# Altium integrated library Microchip Microcontroller 8-Bit PIC16 2.IntLib: 1656 symbols (part 33 of 56)
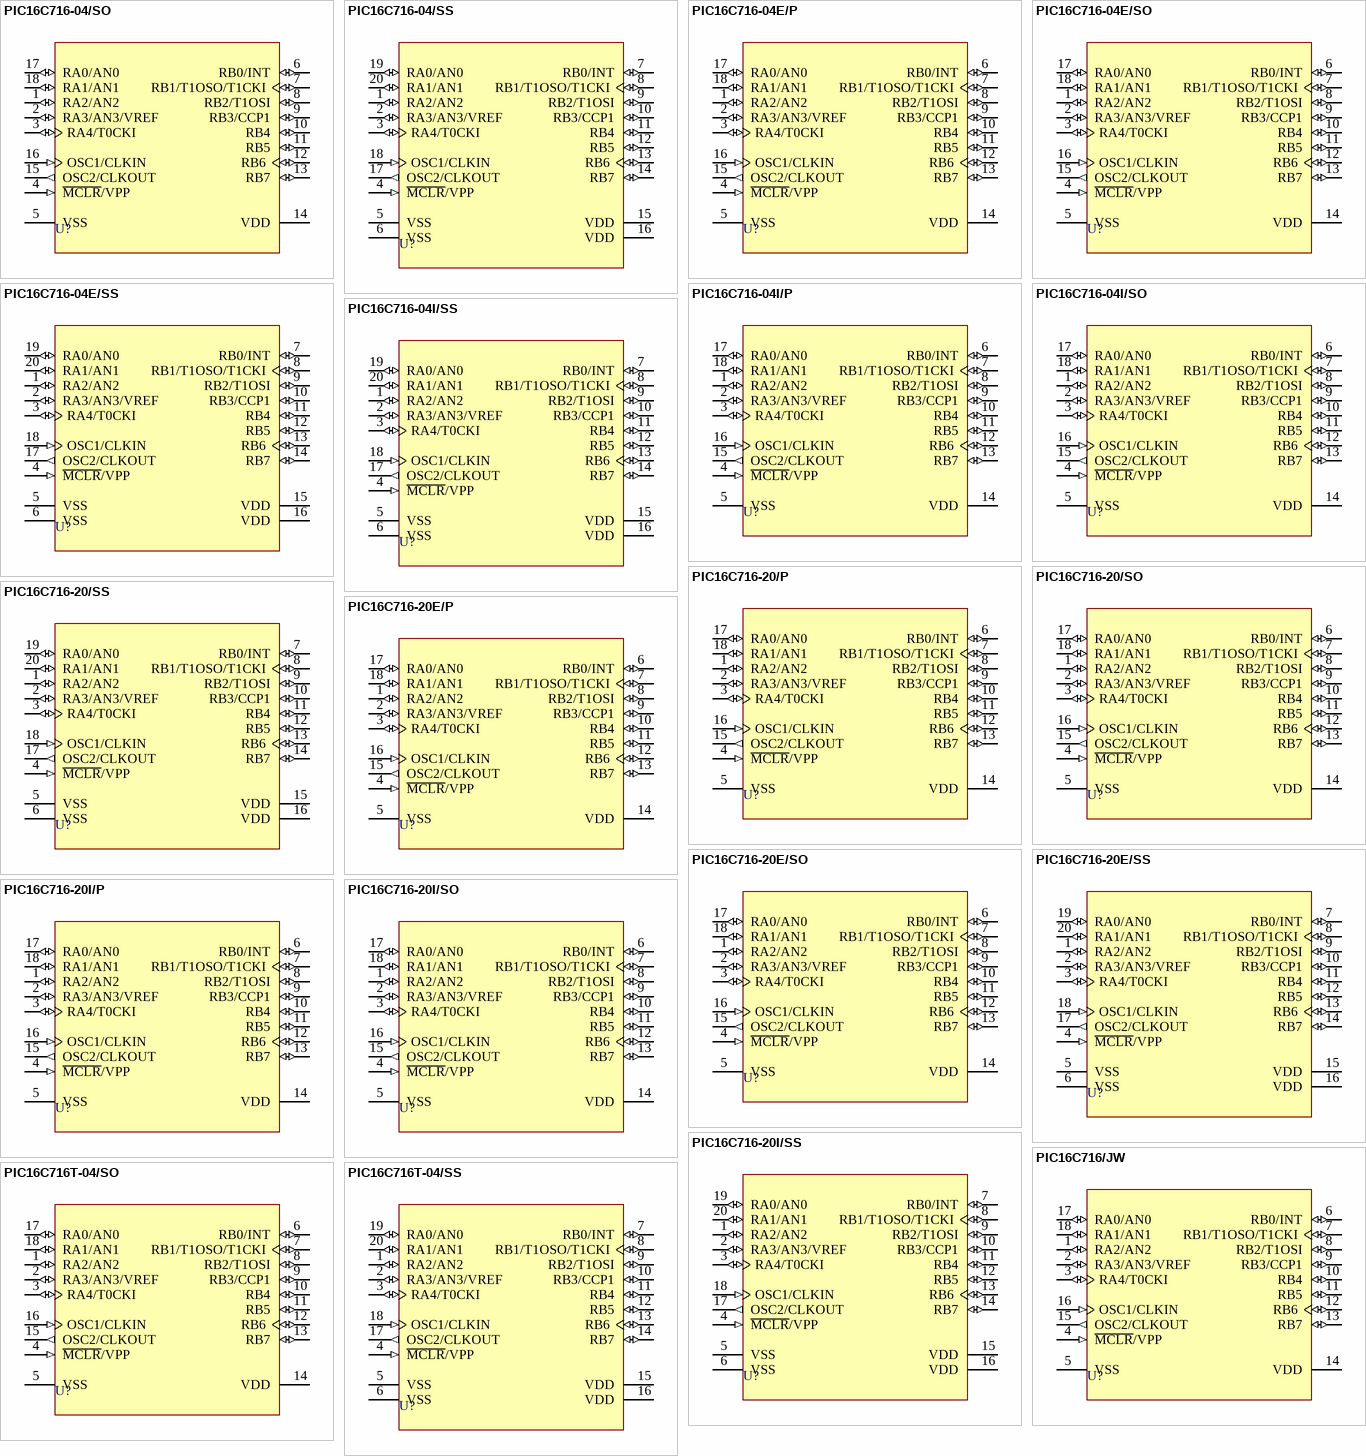
[diagram p140: symbols PIC16C716-04/SO to PIC16C716T-04/SS]

## PIC16C716-04I/P
designator U?
8-Bit CMOS Microcontroller with A/D Converter and Capture/Compare/PWM, 2K (x14-Bit words) EPROM, 128 Bytes RAM, 4 MHz, 18-Pin PDIP, 4.0 to 5.5V Supply Range, Industrial Temperature; Note: 25mA source/sink per I/O.; Published: 11-Oct-2004; LatestRevisionDate: 04-Mar-2005; LatestRevisionNote: Stylized 3D Model Added.; DatasheetVersion: DS41106A_1999; PackageVersion: 2003; PackageReference: PDIP300-18; Publisher: Altium Limited; PackageDescription: DIP, Plastic; 18 Leads; Row Spacing 7.62 mm; Pitch 2.54 mm; Code_JEDEC: MS-001; ComponentLink1Description: Manufacturer Link; ComponentLink1URL: http://www.microchip.com; ComponentLink2Description: Datasheet; ComponentLink2URL: http://ww1.microchip.com/downloads/en/DeviceDoc/41106a.pdf; ComponentLink3Description: Packaging Specification; ComponentLink3URL: http://ww1.microchip.com/downloads/en/PackagingSpec/00049AD.pdf
footprint PDIP300-18 (DIP, Plastic; 18 Leads; Row Spacing 7.62 mm; Pitch 2.54 mm)
3D model PDIP300-18 (DIP, Plastic; 18 Leads; Row Spacing 7.62 mm; Pitch 2.54 mm)
pins: 1 RA2/AN2 (io), 2 RA3/AN3/VREF (io), 3 RA4/T0CKI (io), 4 ~{MCLR}/VPP (in), 5 VSS (power), 6 RB0/INT (io), 7 RB1/T1OSO/T1CKI (io), 8 RB2/T1OSI (io), 9 RB3/CCP1 (io), 10 RB4 (io), 11 RB5 (io), 12 RB6 (io), 13 RB7 (io), 14 VDD (power), 15 OSC2/CLKOUT (out), 16 OSC1/CLKIN (in), 17 RA0/AN0 (io), 18 RA1/AN1 (io)

## PIC16C716-04I/SO
designator U?
8-Bit CMOS Microcontroller with A/D Converter and Capture/Compare/PWM, 2K (x14-Bit words) EPROM, 128 Bytes RAM, 4 MHz, 18-Pin SOIC, 4.0 to 5.5V Supply Range, Industrial Temperature; Note: 25mA source/sink per I/O.; Published: 11-Oct-2004; LatestRevisionDate: 13-Apr-2006; LatestRevisionNote: IPC-7351 Footprint Added.; DatasheetVersion: DS41106A_1999; PackageVersion: 2003; PackageReference: SOIC300-18; Publisher: Altium Limited; PackageDescription: 18-Pin Small Outline Integrated Circuit 1.27 mm Pitch; Code_JEDEC: MS-013; ComponentLink1Description: Manufacturer Link; ComponentLink1URL: http://www.microchip.com; ComponentLink2Description: Datasheet; ComponentLink2URL: http://ww1.microchip.com/downloads/en/DeviceDoc/41106a.pdf; ComponentLink3Description: Packaging Specification; ComponentLink3URL: http://ww1.microchip.com/downloads/en/PackagingSpec/00049AD.pdf
footprint SOIC300-18_N (SOIC, 18-Leads, Body 11.5x7.5mm, Pitch 1.27mm, IPC Medium Density)
footprint SOIC300-18_L (SOIC, 18-Leads, Body 11.5x7.5mm, Pitch 1.27mm, IPC High Density)
footprint SOIC300-18_M (SOIC, 18-Leads, Body 11.5x7.5mm, Pitch 1.27mm, IPC Low Density)
3D model SOIC300-18 (18-Pin Small Outline Integrated Circuit 1.27 mm Pitch)
pins: 1 RA2/AN2 (io), 2 RA3/AN3/VREF (io), 3 RA4/T0CKI (io), 4 ~{MCLR}/VPP (in), 5 VSS (power), 6 RB0/INT (io), 7 RB1/T1OSO/T1CKI (io), 8 RB2/T1OSI (io), 9 RB3/CCP1 (io), 10 RB4 (io), 11 RB5 (io), 12 RB6 (io), 13 RB7 (io), 14 VDD (power), 15 OSC2/CLKOUT (out), 16 OSC1/CLKIN (in), 17 RA0/AN0 (io), 18 RA1/AN1 (io)

## PIC16C716-04I/SS
designator U?
8-Bit CMOS Microcontroller with A/D Converter and Capture/Compare/PWM, 2K (x14-Bit words) EPROM, 128 Bytes RAM, 4 MHz, 20-Pin SSOP, 4.0 to 5.5V Supply Range, Industrial Temperature; Note: 25mA source/sink per I/O.; Published: 11-Oct-2004; LatestRevisionDate: 04-Mar-2005; LatestRevisionNote: Stylized 3D Model Added.; DatasheetVersion: DS41106A_1999; PackageVersion: 2003; PackageReference: SSOP-20; Publisher: Altium Limited; PackageDescription: SSOP, Plastic; 20 Leads; Body Width 5.3 mm; Pitch 0.65 mm; Code_JEDEC: MO-150; ComponentLink1Description: Manufacturer Link; ComponentLink1URL: http://www.microchip.com; ComponentLink2Description: Datasheet; ComponentLink2URL: http://ww1.microchip.com/downloads/en/DeviceDoc/41106a.pdf; ComponentLink3Description: Packaging Specification; ComponentLink3URL: http://ww1.microchip.com/downloads/en/PackagingSpec/00049AD.pdf
footprint SSOP-20 (SSOP, Plastic; 20 Leads; Body Width 5.3 mm; Pitch 0.65 mm)
3D model SSOP-20 (SSOP, Plastic; 20 Leads; Body Width 5.3 mm; Pitch 0.65 mm)
pins: 1 RA2/AN2 (io), 2 RA3/AN3/VREF (io), 3 RA4/T0CKI (io), 4 ~{MCLR}/VPP (in), 5 VSS (power), 6 VSS (power), 7 RB0/INT (io), 8 RB1/T1OSO/T1CKI (io), 9 RB2/T1OSI (io), 10 RB3/CCP1 (io), 11 RB4 (io), 12 RB5 (io), 13 RB6 (io), 14 RB7 (io), 15 VDD (power), 16 VDD (power), 17 OSC2/CLKOUT (out), 18 OSC1/CLKIN (in), 19 RA0/AN0 (io), 20 RA1/AN1 (io)

## PIC16C716-20/P
designator U?
8-Bit CMOS Microcontroller with A/D Converter and Capture/Compare/PWM, 2K (x14-Bit words) EPROM, 128 Bytes RAM, 20 MHz, 18-Pin PDIP, 4.0 to 5.5V Supply Range, Commercial Temperature; Note: 25mA source/sink per I/O.; Published: 11-Oct-2004; LatestRevisionDate: 04-Mar-2005; LatestRevisionNote: Stylized 3D Model Added.; DatasheetVersion: DS41106A_1999; PackageVersion: 2003; PackageReference: PDIP300-18; Publisher: Altium Limited; PackageDescription: DIP, Plastic; 18 Leads; Row Spacing 7.62 mm; Pitch 2.54 mm; Code_JEDEC: MS-001; ComponentLink1Description: Manufacturer Link; ComponentLink1URL: http://www.microchip.com; ComponentLink2Description: Datasheet; ComponentLink2URL: http://ww1.microchip.com/downloads/en/DeviceDoc/41106a.pdf; ComponentLink3Description: Packaging Specification; ComponentLink3URL: http://ww1.microchip.com/downloads/en/PackagingSpec/00049AD.pdf
footprint PDIP300-18 (DIP, Plastic; 18 Leads; Row Spacing 7.62 mm; Pitch 2.54 mm)
3D model PDIP300-18 (DIP, Plastic; 18 Leads; Row Spacing 7.62 mm; Pitch 2.54 mm)
pins: 1 RA2/AN2 (io), 2 RA3/AN3/VREF (io), 3 RA4/T0CKI (io), 4 ~{MCLR}/VPP (in), 5 VSS (power), 6 RB0/INT (io), 7 RB1/T1OSO/T1CKI (io), 8 RB2/T1OSI (io), 9 RB3/CCP1 (io), 10 RB4 (io), 11 RB5 (io), 12 RB6 (io), 13 RB7 (io), 14 VDD (power), 15 OSC2/CLKOUT (out), 16 OSC1/CLKIN (in), 17 RA0/AN0 (io), 18 RA1/AN1 (io)

## PIC16C716-20/SO
designator U?
8-Bit CMOS Microcontroller with A/D Converter and Capture/Compare/PWM, 2K (x14-Bit words) EPROM, 128 Bytes RAM, 20 MHz, 18-Pin SOIC, 4.0 to 5.5V Supply Range, Commercial Temperature; Note: 25mA source/sink per I/O.; Published: 11-Oct-2004; LatestRevisionDate: 13-Apr-2006; LatestRevisionNote: IPC-7351 Footprint Added.; DatasheetVersion: DS41106A_1999; PackageVersion: 2003; PackageReference: SOIC300-18; Publisher: Altium Limited; PackageDescription: 18-Pin Small Outline Integrated Circuit 1.27 mm Pitch; Code_JEDEC: MS-013; ComponentLink1Description: Manufacturer Link; ComponentLink1URL: http://www.microchip.com; ComponentLink2Description: Datasheet; ComponentLink2URL: http://ww1.microchip.com/downloads/en/DeviceDoc/41106a.pdf; ComponentLink3Description: Packaging Specification; ComponentLink3URL: http://ww1.microchip.com/downloads/en/PackagingSpec/00049AD.pdf
footprint SOIC300-18_N (SOIC, 18-Leads, Body 11.5x7.5mm, Pitch 1.27mm, IPC Medium Density)
footprint SOIC300-18_L (SOIC, 18-Leads, Body 11.5x7.5mm, Pitch 1.27mm, IPC High Density)
footprint SOIC300-18_M (SOIC, 18-Leads, Body 11.5x7.5mm, Pitch 1.27mm, IPC Low Density)
3D model SOIC300-18 (18-Pin Small Outline Integrated Circuit 1.27 mm Pitch)
pins: 1 RA2/AN2 (io), 2 RA3/AN3/VREF (io), 3 RA4/T0CKI (io), 4 ~{MCLR}/VPP (in), 5 VSS (power), 6 RB0/INT (io), 7 RB1/T1OSO/T1CKI (io), 8 RB2/T1OSI (io), 9 RB3/CCP1 (io), 10 RB4 (io), 11 RB5 (io), 12 RB6 (io), 13 RB7 (io), 14 VDD (power), 15 OSC2/CLKOUT (out), 16 OSC1/CLKIN (in), 17 RA0/AN0 (io), 18 RA1/AN1 (io)

## PIC16C716-20/SS
designator U?
8-Bit CMOS Microcontroller with A/D Converter and Capture/Compare/PWM, 2K (x14-Bit words) EPROM, 128 Bytes RAM, 20 MHz, 20-Pin SSOP, 4.0 to 5.5V Supply Range, Commercial Temperature; Note: 25mA source/sink per I/O.; Published: 11-Oct-2004; LatestRevisionDate: 04-Mar-2005; LatestRevisionNote: Stylized 3D Model Added.; DatasheetVersion: DS41106A_1999; PackageVersion: 2003; PackageReference: SSOP-20; Publisher: Altium Limited; PackageDescription: SSOP, Plastic; 20 Leads; Body Width 5.3 mm; Pitch 0.65 mm; Code_JEDEC: MO-150; ComponentLink1Description: Manufacturer Link; ComponentLink1URL: http://www.microchip.com; ComponentLink2Description: Datasheet; ComponentLink2URL: http://ww1.microchip.com/downloads/en/DeviceDoc/41106a.pdf; ComponentLink3Description: Packaging Specification; ComponentLink3URL: http://ww1.microchip.com/downloads/en/PackagingSpec/00049AD.pdf
footprint SSOP-20 (SSOP, Plastic; 20 Leads; Body Width 5.3 mm; Pitch 0.65 mm)
3D model SSOP-20 (SSOP, Plastic; 20 Leads; Body Width 5.3 mm; Pitch 0.65 mm)
pins: 1 RA2/AN2 (io), 2 RA3/AN3/VREF (io), 3 RA4/T0CKI (io), 4 ~{MCLR}/VPP (in), 5 VSS (power), 6 VSS (power), 7 RB0/INT (io), 8 RB1/T1OSO/T1CKI (io), 9 RB2/T1OSI (io), 10 RB3/CCP1 (io), 11 RB4 (io), 12 RB5 (io), 13 RB6 (io), 14 RB7 (io), 15 VDD (power), 16 VDD (power), 17 OSC2/CLKOUT (out), 18 OSC1/CLKIN (in), 19 RA0/AN0 (io), 20 RA1/AN1 (io)

## PIC16C716-20E/P
designator U?
8-Bit CMOS Microcontroller with A/D Converter and Capture/Compare/PWM, 2K (x14-Bit words) EPROM, 128 Bytes RAM, 20 MHz, 18-Pin PDIP, 4.0 to 5.5V Supply Range, Extended Temperature; Note: 25mA source/sink per I/O.; Published: 11-Oct-2004; LatestRevisionDate: 04-Mar-2005; LatestRevisionNote: Stylized 3D Model Added.; DatasheetVersion: DS41106A_1999; PackageVersion: 2003; PackageReference: PDIP300-18; Publisher: Altium Limited; PackageDescription: DIP, Plastic; 18 Leads; Row Spacing 7.62 mm; Pitch 2.54 mm; Code_JEDEC: MS-001; ComponentLink1Description: Manufacturer Link; ComponentLink1URL: http://www.microchip.com; ComponentLink2Description: Datasheet; ComponentLink2URL: http://ww1.microchip.com/downloads/en/DeviceDoc/41106a.pdf; ComponentLink3Description: Packaging Specification; ComponentLink3URL: http://ww1.microchip.com/downloads/en/PackagingSpec/00049AD.pdf
footprint PDIP300-18 (DIP, Plastic; 18 Leads; Row Spacing 7.62 mm; Pitch 2.54 mm)
3D model PDIP300-18 (DIP, Plastic; 18 Leads; Row Spacing 7.62 mm; Pitch 2.54 mm)
pins: 1 RA2/AN2 (io), 2 RA3/AN3/VREF (io), 3 RA4/T0CKI (io), 4 ~{MCLR}/VPP (in), 5 VSS (power), 6 RB0/INT (io), 7 RB1/T1OSO/T1CKI (io), 8 RB2/T1OSI (io), 9 RB3/CCP1 (io), 10 RB4 (io), 11 RB5 (io), 12 RB6 (io), 13 RB7 (io), 14 VDD (power), 15 OSC2/CLKOUT (out), 16 OSC1/CLKIN (in), 17 RA0/AN0 (io), 18 RA1/AN1 (io)

## PIC16C716-20E/SO
designator U?
8-Bit CMOS Microcontroller with A/D Converter and Capture/Compare/PWM, 2K (x14-Bit words) EPROM, 128 Bytes RAM, 20 MHz, 18-Pin SOIC, 4.0 to 5.5V Supply Range, Extended Temperature; Note: 25mA source/sink per I/O.; Published: 11-Oct-2004; LatestRevisionDate: 13-Apr-2006; LatestRevisionNote: IPC-7351 Footprint Added.; DatasheetVersion: DS41106A_1999; PackageVersion: 2003; PackageReference: SOIC300-18; Publisher: Altium Limited; PackageDescription: 18-Pin Small Outline Integrated Circuit 1.27 mm Pitch; Code_JEDEC: MS-013; ComponentLink1Description: Manufacturer Link; ComponentLink1URL: http://www.microchip.com; ComponentLink2Description: Datasheet; ComponentLink2URL: http://ww1.microchip.com/downloads/en/DeviceDoc/41106a.pdf; ComponentLink3Description: Packaging Specification; ComponentLink3URL: http://ww1.microchip.com/downloads/en/PackagingSpec/00049AD.pdf
footprint SOIC300-18_N (SOIC, 18-Leads, Body 11.5x7.5mm, Pitch 1.27mm, IPC Medium Density)
footprint SOIC300-18_L (SOIC, 18-Leads, Body 11.5x7.5mm, Pitch 1.27mm, IPC High Density)
footprint SOIC300-18_M (SOIC, 18-Leads, Body 11.5x7.5mm, Pitch 1.27mm, IPC Low Density)
3D model SOIC300-18 (18-Pin Small Outline Integrated Circuit 1.27 mm Pitch)
pins: 1 RA2/AN2 (io), 2 RA3/AN3/VREF (io), 3 RA4/T0CKI (io), 4 ~{MCLR}/VPP (in), 5 VSS (power), 6 RB0/INT (io), 7 RB1/T1OSO/T1CKI (io), 8 RB2/T1OSI (io), 9 RB3/CCP1 (io), 10 RB4 (io), 11 RB5 (io), 12 RB6 (io), 13 RB7 (io), 14 VDD (power), 15 OSC2/CLKOUT (out), 16 OSC1/CLKIN (in), 17 RA0/AN0 (io), 18 RA1/AN1 (io)

## PIC16C716-20E/SS
designator U?
8-Bit CMOS Microcontroller with A/D Converter and Capture/Compare/PWM, 2K (x14-Bit words) EPROM, 128 Bytes RAM, 20 MHz, 20-Pin SSOP, 4.0 to 5.5V Supply Range, Extended Temperature; Note: 25mA source/sink per I/O.; Published: 11-Oct-2004; LatestRevisionDate: 04-Mar-2005; LatestRevisionNote: Stylized 3D Model Added.; DatasheetVersion: DS41106A_1999; PackageVersion: 2003; PackageReference: SSOP-20; Publisher: Altium Limited; PackageDescription: SSOP, Plastic; 20 Leads; Body Width 5.3 mm; Pitch 0.65 mm; Code_JEDEC: MO-150; ComponentLink1Description: Manufacturer Link; ComponentLink1URL: http://www.microchip.com; ComponentLink2Description: Datasheet; ComponentLink2URL: http://ww1.microchip.com/downloads/en/DeviceDoc/41106a.pdf; ComponentLink3Description: Packaging Specification; ComponentLink3URL: http://ww1.microchip.com/downloads/en/PackagingSpec/00049AD.pdf
footprint SSOP-20 (SSOP, Plastic; 20 Leads; Body Width 5.3 mm; Pitch 0.65 mm)
3D model SSOP-20 (SSOP, Plastic; 20 Leads; Body Width 5.3 mm; Pitch 0.65 mm)
pins: 1 RA2/AN2 (io), 2 RA3/AN3/VREF (io), 3 RA4/T0CKI (io), 4 ~{MCLR}/VPP (in), 5 VSS (power), 6 VSS (power), 7 RB0/INT (io), 8 RB1/T1OSO/T1CKI (io), 9 RB2/T1OSI (io), 10 RB3/CCP1 (io), 11 RB4 (io), 12 RB5 (io), 13 RB6 (io), 14 RB7 (io), 15 VDD (power), 16 VDD (power), 17 OSC2/CLKOUT (out), 18 OSC1/CLKIN (in), 19 RA0/AN0 (io), 20 RA1/AN1 (io)

## PIC16C716-20I/P
designator U?
8-Bit CMOS Microcontroller with A/D Converter and Capture/Compare/PWM, 2K (x14-Bit words) EPROM, 128 Bytes RAM, 20 MHz, 18-Pin PDIP, 4.0 to 5.5V Supply Range, Industrial Temperature; Note: 25mA source/sink per I/O.; Published: 11-Oct-2004; LatestRevisionDate: 04-Mar-2005; LatestRevisionNote: Stylized 3D Model Added.; DatasheetVersion: DS41106A_1999; PackageVersion: 2003; PackageReference: PDIP300-18; Publisher: Altium Limited; PackageDescription: DIP, Plastic; 18 Leads; Row Spacing 7.62 mm; Pitch 2.54 mm; Code_JEDEC: MS-001; ComponentLink1Description: Manufacturer Link; ComponentLink1URL: http://www.microchip.com; ComponentLink2Description: Datasheet; ComponentLink2URL: http://ww1.microchip.com/downloads/en/DeviceDoc/41106a.pdf; ComponentLink3Description: Packaging Specification; ComponentLink3URL: http://ww1.microchip.com/downloads/en/PackagingSpec/00049AD.pdf
footprint PDIP300-18 (DIP, Plastic; 18 Leads; Row Spacing 7.62 mm; Pitch 2.54 mm)
3D model PDIP300-18 (DIP, Plastic; 18 Leads; Row Spacing 7.62 mm; Pitch 2.54 mm)
pins: 1 RA2/AN2 (io), 2 RA3/AN3/VREF (io), 3 RA4/T0CKI (io), 4 ~{MCLR}/VPP (in), 5 VSS (power), 6 RB0/INT (io), 7 RB1/T1OSO/T1CKI (io), 8 RB2/T1OSI (io), 9 RB3/CCP1 (io), 10 RB4 (io), 11 RB5 (io), 12 RB6 (io), 13 RB7 (io), 14 VDD (power), 15 OSC2/CLKOUT (out), 16 OSC1/CLKIN (in), 17 RA0/AN0 (io), 18 RA1/AN1 (io)

## PIC16C716-20I/SO
designator U?
8-Bit CMOS Microcontroller with A/D Converter and Capture/Compare/PWM, 2K (x14-Bit words) EPROM, 128 Bytes RAM, 20 MHz, 18-Pin SOIC, 4.0 to 5.5V Supply Range, Industrial Temperature; Note: 25mA source/sink per I/O.; Published: 11-Oct-2004; LatestRevisionDate: 13-Apr-2006; LatestRevisionNote: IPC-7351 Footprint Added.; DatasheetVersion: DS41106A_1999; PackageVersion: 2003; PackageReference: SOIC300-18; Publisher: Altium Limited; PackageDescription: 18-Pin Small Outline Integrated Circuit 1.27 mm Pitch; Code_JEDEC: MS-013; ComponentLink1Description: Manufacturer Link; ComponentLink1URL: http://www.microchip.com; ComponentLink2Description: Datasheet; ComponentLink2URL: http://ww1.microchip.com/downloads/en/DeviceDoc/41106a.pdf; ComponentLink3Description: Packaging Specification; ComponentLink3URL: http://ww1.microchip.com/downloads/en/PackagingSpec/00049AD.pdf
footprint SOIC300-18_N (SOIC, 18-Leads, Body 11.5x7.5mm, Pitch 1.27mm, IPC Medium Density)
footprint SOIC300-18_L (SOIC, 18-Leads, Body 11.5x7.5mm, Pitch 1.27mm, IPC High Density)
footprint SOIC300-18_M (SOIC, 18-Leads, Body 11.5x7.5mm, Pitch 1.27mm, IPC Low Density)
3D model SOIC300-18 (18-Pin Small Outline Integrated Circuit 1.27 mm Pitch)
pins: 1 RA2/AN2 (io), 2 RA3/AN3/VREF (io), 3 RA4/T0CKI (io), 4 ~{MCLR}/VPP (in), 5 VSS (power), 6 RB0/INT (io), 7 RB1/T1OSO/T1CKI (io), 8 RB2/T1OSI (io), 9 RB3/CCP1 (io), 10 RB4 (io), 11 RB5 (io), 12 RB6 (io), 13 RB7 (io), 14 VDD (power), 15 OSC2/CLKOUT (out), 16 OSC1/CLKIN (in), 17 RA0/AN0 (io), 18 RA1/AN1 (io)

## PIC16C716-20I/SS
designator U?
8-Bit CMOS Microcontroller with A/D Converter and Capture/Compare/PWM, 2K (x14-Bit words) EPROM, 128 Bytes RAM, 20 MHz, 20-Pin SSOP, 4.0 to 5.5V Supply Range, Industrial Temperature; Note: 25mA source/sink per I/O.; Published: 11-Oct-2004; LatestRevisionDate: 04-Mar-2005; LatestRevisionNote: Stylized 3D Model Added.; DatasheetVersion: DS41106A_1999; PackageVersion: 2003; PackageReference: SSOP-20; Publisher: Altium Limited; PackageDescription: SSOP, Plastic; 20 Leads; Body Width 5.3 mm; Pitch 0.65 mm; Code_JEDEC: MO-150; ComponentLink1Description: Manufacturer Link; ComponentLink1URL: http://www.microchip.com; ComponentLink2Description: Datasheet; ComponentLink2URL: http://ww1.microchip.com/downloads/en/DeviceDoc/41106a.pdf; ComponentLink3Description: Packaging Specification; ComponentLink3URL: http://ww1.microchip.com/downloads/en/PackagingSpec/00049AD.pdf
footprint SSOP-20 (SSOP, Plastic; 20 Leads; Body Width 5.3 mm; Pitch 0.65 mm)
3D model SSOP-20 (SSOP, Plastic; 20 Leads; Body Width 5.3 mm; Pitch 0.65 mm)
pins: 1 RA2/AN2 (io), 2 RA3/AN3/VREF (io), 3 RA4/T0CKI (io), 4 ~{MCLR}/VPP (in), 5 VSS (power), 6 VSS (power), 7 RB0/INT (io), 8 RB1/T1OSO/T1CKI (io), 9 RB2/T1OSI (io), 10 RB3/CCP1 (io), 11 RB4 (io), 12 RB5 (io), 13 RB6 (io), 14 RB7 (io), 15 VDD (power), 16 VDD (power), 17 OSC2/CLKOUT (out), 18 OSC1/CLKIN (in), 19 RA0/AN0 (io), 20 RA1/AN1 (io)

## PIC16C716/JW
designator U?
8-Bit CMOS Microcontroller with A/D Converter and Capture/Compare/PWM, 2K (x14-Bit words) EPROM, 128 Bytes RAM, 18-Pin CERDIP, UV Erasable, Standard VDD Range, Commercial Temperature; Note: JW Devices can be programmed to any device configuration.; Note: JW Devices meet the electrical requirement of each oscillator type (including LC devices).; Note: 25mA source/sink per I/O.; Published: 11-Oct-2004; LatestRevisionDate: 04-Mar-2005; LatestRevisionNote: Stylized 3D Model Added.; DatasheetVersion: DS41106A_1999; PackageVersion: 2003; PackageReference: CERDIP300W-18; Publisher: Altium Limited; PackageDescription: CerDIP, Window; 18 Leads; Row Spacing 7.62 mm; Pitch 2.54 mm; Code_JEDEC: MO-036; ComponentLink1Description: Manufacturer Link; ComponentLink1URL: http://www.microchip.com; ComponentLink2Description: Datasheet; ComponentLink2URL: http://ww1.microchip.com/downloads/en/DeviceDoc/41106a.pdf; ComponentLink3Description: Packaging Specification; ComponentLink3URL: http://ww1.microchip.com/downloads/en/PackagingSpec/00049AD.pdf
footprint CERDIP300W-18 (CerDIP, Window; 18 Leads; Row Spacing 7.62 mm; Pitch 2.54 mm)
3D model CERDIP300W-18 (CerDIP, Window; 18 Leads; Row Spacing 7.62 mm; Pitch 2.54 mm)
pins: 1 RA2/AN2 (io), 2 RA3/AN3/VREF (io), 3 RA4/T0CKI (io), 4 ~{MCLR}/VPP (in), 5 VSS (power), 6 RB0/INT (io), 7 RB1/T1OSO/T1CKI (io), 8 RB2/T1OSI (io), 9 RB3/CCP1 (io), 10 RB4 (io), 11 RB5 (io), 12 RB6 (io), 13 RB7 (io), 14 VDD (power), 15 OSC2/CLKOUT (out), 16 OSC1/CLKIN (in), 17 RA0/AN0 (io), 18 RA1/AN1 (io)

## PIC16C716T-04/SO
designator U?
8-Bit CMOS Microcontroller with A/D Converter and Capture/Compare/PWM, 2K (x14-Bit words) EPROM, 128 Bytes RAM, 4 MHz, 18-Pin SOIC, 4.0 to 5.5V Supply Range, Commercial Temperature, Tape and Reel; Note: 25mA source/sink per I/O.; Published: 11-Oct-2004; LatestRevisionDate: 13-Apr-2006; LatestRevisionNote: IPC-7351 Footprint Added.; DatasheetVersion: DS41106A_1999; PackageVersion: 2003; PackageReference: SOIC300-18; Publisher: Altium Limited; PackageDescription: 18-Pin Small Outline Integrated Circuit 1.27 mm Pitch; Code_JEDEC: MS-013; ComponentLink1Description: Manufacturer Link; ComponentLink1URL: http://www.microchip.com; ComponentLink2Description: Datasheet; ComponentLink2URL: http://ww1.microchip.com/downloads/en/DeviceDoc/41106a.pdf; ComponentLink3Description: Packaging Specification; ComponentLink3URL: http://ww1.microchip.com/downloads/en/PackagingSpec/00049AD.pdf
footprint SOIC300-18_N (SOIC, 18-Leads, Body 11.5x7.5mm, Pitch 1.27mm, IPC Medium Density)
footprint SOIC300-18_L (SOIC, 18-Leads, Body 11.5x7.5mm, Pitch 1.27mm, IPC High Density)
footprint SOIC300-18_M (SOIC, 18-Leads, Body 11.5x7.5mm, Pitch 1.27mm, IPC Low Density)
3D model SOIC300-18 (18-Pin Small Outline Integrated Circuit 1.27 mm Pitch)
pins: 1 RA2/AN2 (io), 2 RA3/AN3/VREF (io), 3 RA4/T0CKI (io), 4 ~{MCLR}/VPP (in), 5 VSS (power), 6 RB0/INT (io), 7 RB1/T1OSO/T1CKI (io), 8 RB2/T1OSI (io), 9 RB3/CCP1 (io), 10 RB4 (io), 11 RB5 (io), 12 RB6 (io), 13 RB7 (io), 14 VDD (power), 15 OSC2/CLKOUT (out), 16 OSC1/CLKIN (in), 17 RA0/AN0 (io), 18 RA1/AN1 (io)

## PIC16C716T-04/SS
designator U?
8-Bit CMOS Microcontroller with A/D Converter and Capture/Compare/PWM, 2K (x14-Bit words) EPROM, 128 Bytes RAM, 4 MHz, 20-Pin SSOP, 4.0 to 5.5V Supply Range, Commercial Temperature, Tape and Reel; Note: 25mA source/sink per I/O.; Published: 11-Oct-2004; LatestRevisionDate: 04-Mar-2005; LatestRevisionNote: Stylized 3D Model Added.; DatasheetVersion: DS41106A_1999; PackageVersion: 2003; PackageReference: SSOP-20; Publisher: Altium Limited; PackageDescription: SSOP, Plastic; 20 Leads; Body Width 5.3 mm; Pitch 0.65 mm; Code_JEDEC: MO-150; ComponentLink1Description: Manufacturer Link; ComponentLink1URL: http://www.microchip.com; ComponentLink2Description: Datasheet; ComponentLink2URL: http://ww1.microchip.com/downloads/en/DeviceDoc/41106a.pdf; ComponentLink3Description: Packaging Specification; ComponentLink3URL: http://ww1.microchip.com/downloads/en/PackagingSpec/00049AD.pdf
footprint SSOP-20 (SSOP, Plastic; 20 Leads; Body Width 5.3 mm; Pitch 0.65 mm)
3D model SSOP-20 (SSOP, Plastic; 20 Leads; Body Width 5.3 mm; Pitch 0.65 mm)
pins: 1 RA2/AN2 (io), 2 RA3/AN3/VREF (io), 3 RA4/T0CKI (io), 4 ~{MCLR}/VPP (in), 5 VSS (power), 6 VSS (power), 7 RB0/INT (io), 8 RB1/T1OSO/T1CKI (io), 9 RB2/T1OSI (io), 10 RB3/CCP1 (io), 11 RB4 (io), 12 RB5 (io), 13 RB6 (io), 14 RB7 (io), 15 VDD (power), 16 VDD (power), 17 OSC2/CLKOUT (out), 18 OSC1/CLKIN (in), 19 RA0/AN0 (io), 20 RA1/AN1 (io)

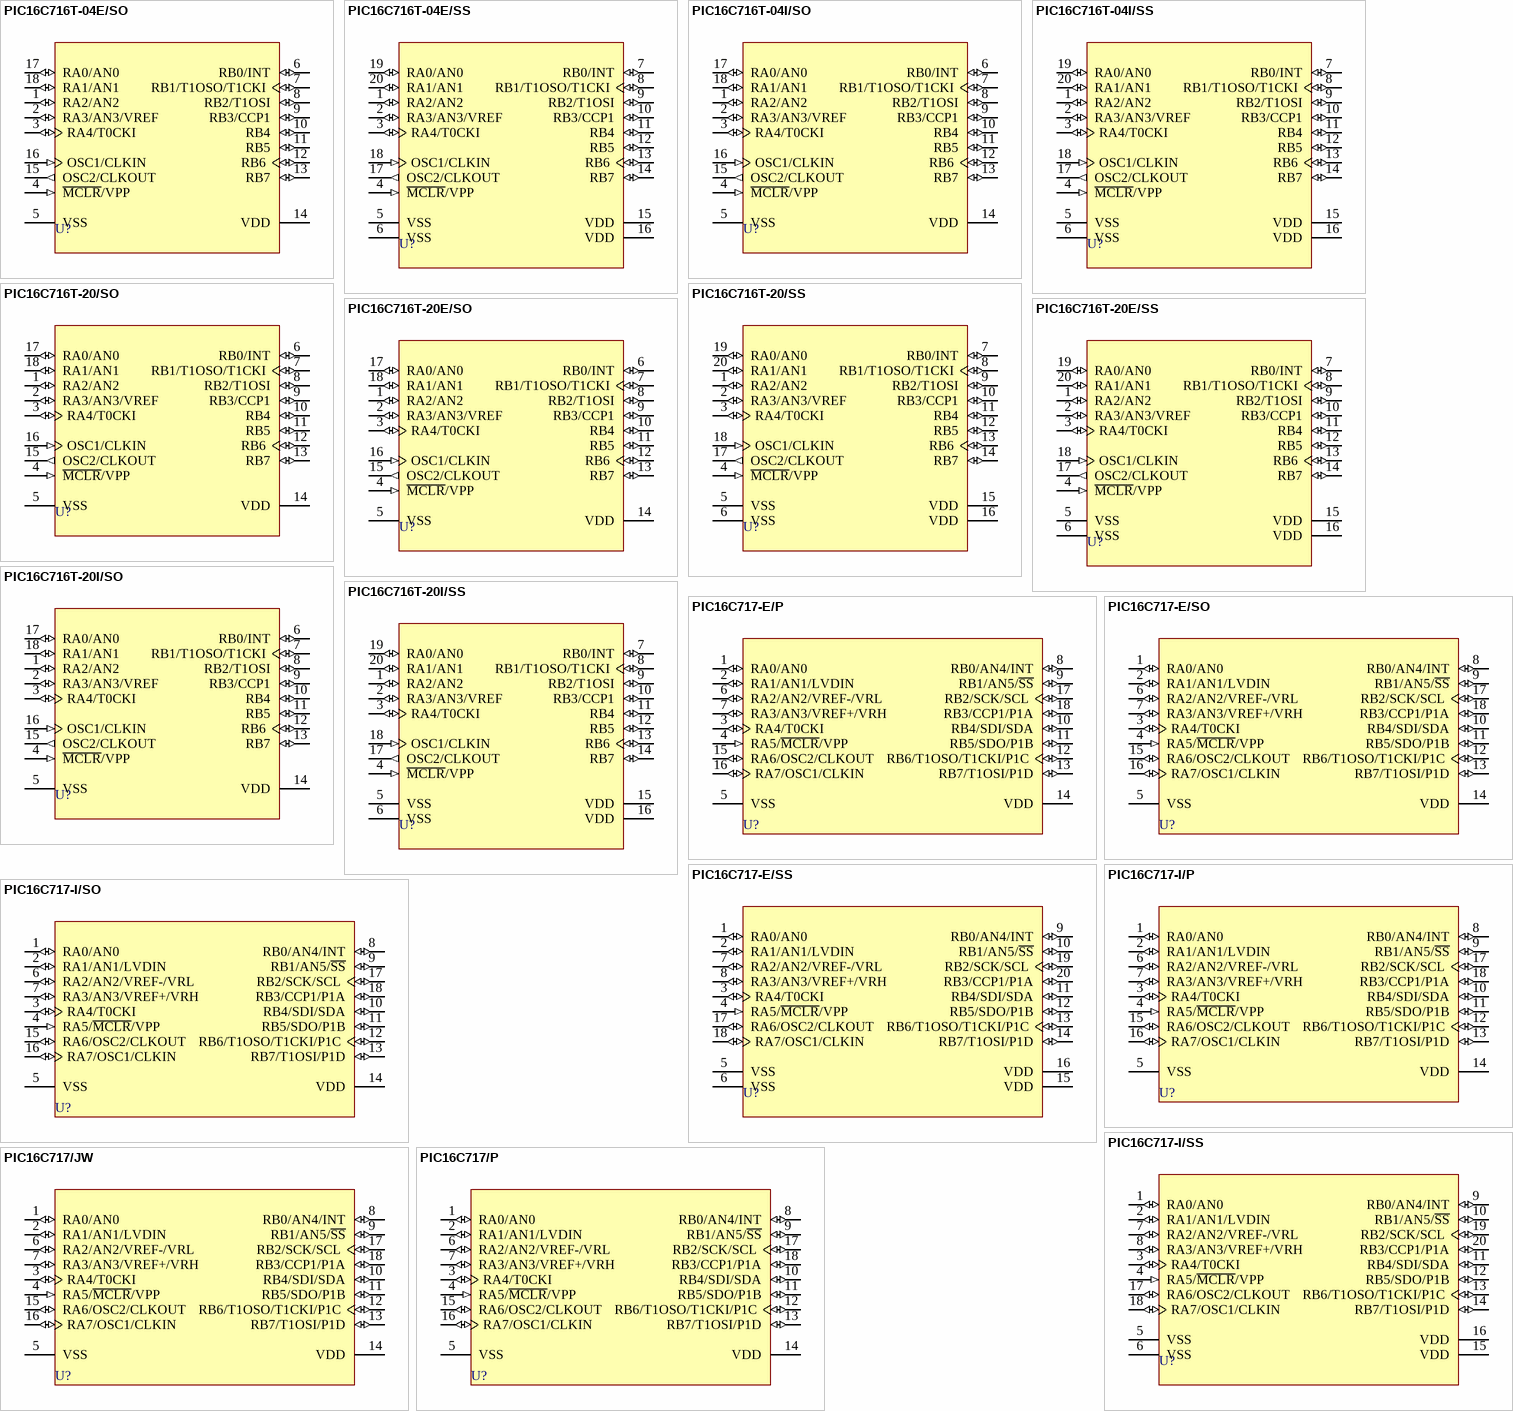
[diagram p61: symbols PIC16C716T-04E/SO to PIC16C717/P]

## PIC16C716T-04E/SO
designator U?
8-Bit CMOS Microcontroller with A/D Converter and Capture/Compare/PWM, 2K (x14-Bit words) EPROM, 128 Bytes RAM, 4 MHz, 18-Pin SOIC, 4.0 to 5.5V Supply Range, Extended Temperature, Tape and Reel; Note: 25mA source/sink per I/O.; Published: 11-Oct-2004; LatestRevisionDate: 13-Apr-2006; LatestRevisionNote: IPC-7351 Footprint Added.; DatasheetVersion: DS41106A_1999; PackageVersion: 2003; PackageReference: SOIC300-18; Publisher: Altium Limited; PackageDescription: 18-Pin Small Outline Integrated Circuit 1.27 mm Pitch; Code_JEDEC: MS-013; ComponentLink1Description: Manufacturer Link; ComponentLink1URL: http://www.microchip.com; ComponentLink2Description: Datasheet; ComponentLink2URL: http://ww1.microchip.com/downloads/en/DeviceDoc/41106a.pdf; ComponentLink3Description: Packaging Specification; ComponentLink3URL: http://ww1.microchip.com/downloads/en/PackagingSpec/00049AD.pdf
footprint SOIC300-18_N (SOIC, 18-Leads, Body 11.5x7.5mm, Pitch 1.27mm, IPC Medium Density)
footprint SOIC300-18_L (SOIC, 18-Leads, Body 11.5x7.5mm, Pitch 1.27mm, IPC High Density)
footprint SOIC300-18_M (SOIC, 18-Leads, Body 11.5x7.5mm, Pitch 1.27mm, IPC Low Density)
3D model SOIC300-18 (18-Pin Small Outline Integrated Circuit 1.27 mm Pitch)
pins: 1 RA2/AN2 (io), 2 RA3/AN3/VREF (io), 3 RA4/T0CKI (io), 4 ~{MCLR}/VPP (in), 5 VSS (power), 6 RB0/INT (io), 7 RB1/T1OSO/T1CKI (io), 8 RB2/T1OSI (io), 9 RB3/CCP1 (io), 10 RB4 (io), 11 RB5 (io), 12 RB6 (io), 13 RB7 (io), 14 VDD (power), 15 OSC2/CLKOUT (out), 16 OSC1/CLKIN (in), 17 RA0/AN0 (io), 18 RA1/AN1 (io)

## PIC16C716T-04E/SS
designator U?
8-Bit CMOS Microcontroller with A/D Converter and Capture/Compare/PWM, 2K (x14-Bit words) EPROM, 128 Bytes RAM, 4 MHz, 20-Pin SSOP, 4.0 to 5.5V Supply Range, Extended Temperature, Tape and Reel; Note: 25mA source/sink per I/O.; Published: 11-Oct-2004; LatestRevisionDate: 04-Mar-2005; LatestRevisionNote: Stylized 3D Model Added.; DatasheetVersion: DS41106A_1999; PackageVersion: 2003; PackageReference: SSOP-20; Publisher: Altium Limited; PackageDescription: SSOP, Plastic; 20 Leads; Body Width 5.3 mm; Pitch 0.65 mm; Code_JEDEC: MO-150; ComponentLink1Description: Manufacturer Link; ComponentLink1URL: http://www.microchip.com; ComponentLink2Description: Datasheet; ComponentLink2URL: http://ww1.microchip.com/downloads/en/DeviceDoc/41106a.pdf; ComponentLink3Description: Packaging Specification; ComponentLink3URL: http://ww1.microchip.com/downloads/en/PackagingSpec/00049AD.pdf
footprint SSOP-20 (SSOP, Plastic; 20 Leads; Body Width 5.3 mm; Pitch 0.65 mm)
3D model SSOP-20 (SSOP, Plastic; 20 Leads; Body Width 5.3 mm; Pitch 0.65 mm)
pins: 1 RA2/AN2 (io), 2 RA3/AN3/VREF (io), 3 RA4/T0CKI (io), 4 ~{MCLR}/VPP (in), 5 VSS (power), 6 VSS (power), 7 RB0/INT (io), 8 RB1/T1OSO/T1CKI (io), 9 RB2/T1OSI (io), 10 RB3/CCP1 (io), 11 RB4 (io), 12 RB5 (io), 13 RB6 (io), 14 RB7 (io), 15 VDD (power), 16 VDD (power), 17 OSC2/CLKOUT (out), 18 OSC1/CLKIN (in), 19 RA0/AN0 (io), 20 RA1/AN1 (io)

## PIC16C716T-04I/SO
designator U?
8-Bit CMOS Microcontroller with A/D Converter and Capture/Compare/PWM, 2K (x14-Bit words) EPROM, 128 Bytes RAM, 4 MHz, 18-Pin SOIC, 4.0 to 5.5V Supply Range, Industrial Temperature, Tape and Reel; Note: 25mA source/sink per I/O.; Published: 11-Oct-2004; LatestRevisionDate: 13-Apr-2006; LatestRevisionNote: IPC-7351 Footprint Added.; DatasheetVersion: DS41106A_1999; PackageVersion: 2003; PackageReference: SOIC300-18; Publisher: Altium Limited; PackageDescription: 18-Pin Small Outline Integrated Circuit 1.27 mm Pitch; Code_JEDEC: MS-013; ComponentLink1Description: Manufacturer Link; ComponentLink1URL: http://www.microchip.com; ComponentLink2Description: Datasheet; ComponentLink2URL: http://ww1.microchip.com/downloads/en/DeviceDoc/41106a.pdf; ComponentLink3Description: Packaging Specification; ComponentLink3URL: http://ww1.microchip.com/downloads/en/PackagingSpec/00049AD.pdf
footprint SOIC300-18_N (SOIC, 18-Leads, Body 11.5x7.5mm, Pitch 1.27mm, IPC Medium Density)
footprint SOIC300-18_L (SOIC, 18-Leads, Body 11.5x7.5mm, Pitch 1.27mm, IPC High Density)
footprint SOIC300-18_M (SOIC, 18-Leads, Body 11.5x7.5mm, Pitch 1.27mm, IPC Low Density)
3D model SOIC300-18 (18-Pin Small Outline Integrated Circuit 1.27 mm Pitch)
pins: 1 RA2/AN2 (io), 2 RA3/AN3/VREF (io), 3 RA4/T0CKI (io), 4 ~{MCLR}/VPP (in), 5 VSS (power), 6 RB0/INT (io), 7 RB1/T1OSO/T1CKI (io), 8 RB2/T1OSI (io), 9 RB3/CCP1 (io), 10 RB4 (io), 11 RB5 (io), 12 RB6 (io), 13 RB7 (io), 14 VDD (power), 15 OSC2/CLKOUT (out), 16 OSC1/CLKIN (in), 17 RA0/AN0 (io), 18 RA1/AN1 (io)

## PIC16C716T-04I/SS
designator U?
8-Bit CMOS Microcontroller with A/D Converter and Capture/Compare/PWM, 2K (x14-Bit words) EPROM, 128 Bytes RAM, 4 MHz, 20-Pin SSOP, 4.0 to 5.5V Supply Range, Industrial Temperature, Tape and Reel; Note: 25mA source/sink per I/O.; Published: 11-Oct-2004; LatestRevisionDate: 04-Mar-2005; LatestRevisionNote: Stylized 3D Model Added.; DatasheetVersion: DS41106A_1999; PackageVersion: 2003; PackageReference: SSOP-20; Publisher: Altium Limited; PackageDescription: SSOP, Plastic; 20 Leads; Body Width 5.3 mm; Pitch 0.65 mm; Code_JEDEC: MO-150; ComponentLink1Description: Manufacturer Link; ComponentLink1URL: http://www.microchip.com; ComponentLink2Description: Datasheet; ComponentLink2URL: http://ww1.microchip.com/downloads/en/DeviceDoc/41106a.pdf; ComponentLink3Description: Packaging Specification; ComponentLink3URL: http://ww1.microchip.com/downloads/en/PackagingSpec/00049AD.pdf
footprint SSOP-20 (SSOP, Plastic; 20 Leads; Body Width 5.3 mm; Pitch 0.65 mm)
3D model SSOP-20 (SSOP, Plastic; 20 Leads; Body Width 5.3 mm; Pitch 0.65 mm)
pins: 1 RA2/AN2 (io), 2 RA3/AN3/VREF (io), 3 RA4/T0CKI (io), 4 ~{MCLR}/VPP (in), 5 VSS (power), 6 VSS (power), 7 RB0/INT (io), 8 RB1/T1OSO/T1CKI (io), 9 RB2/T1OSI (io), 10 RB3/CCP1 (io), 11 RB4 (io), 12 RB5 (io), 13 RB6 (io), 14 RB7 (io), 15 VDD (power), 16 VDD (power), 17 OSC2/CLKOUT (out), 18 OSC1/CLKIN (in), 19 RA0/AN0 (io), 20 RA1/AN1 (io)

## PIC16C716T-20/SO
designator U?
8-Bit CMOS Microcontroller with A/D Converter and Capture/Compare/PWM, 2K (x14-Bit words) EPROM, 128 Bytes RAM, 20 MHz, 18-Pin SOIC, 4.0 to 5.5V Supply Range, Commercial Temperature, Tape and Reel; Note: 25mA source/sink per I/O.; Published: 11-Oct-2004; LatestRevisionDate: 13-Apr-2006; LatestRevisionNote: IPC-7351 Footprint Added.; DatasheetVersion: DS41106A_1999; PackageVersion: 2003; PackageReference: SOIC300-18; Publisher: Altium Limited; PackageDescription: 18-Pin Small Outline Integrated Circuit 1.27 mm Pitch; Code_JEDEC: MS-013; ComponentLink1Description: Manufacturer Link; ComponentLink1URL: http://www.microchip.com; ComponentLink2Description: Datasheet; ComponentLink2URL: http://ww1.microchip.com/downloads/en/DeviceDoc/41106a.pdf; ComponentLink3Description: Packaging Specification; ComponentLink3URL: http://ww1.microchip.com/downloads/en/PackagingSpec/00049AD.pdf
footprint SOIC300-18_N (SOIC, 18-Leads, Body 11.5x7.5mm, Pitch 1.27mm, IPC Medium Density)
footprint SOIC300-18_L (SOIC, 18-Leads, Body 11.5x7.5mm, Pitch 1.27mm, IPC High Density)
footprint SOIC300-18_M (SOIC, 18-Leads, Body 11.5x7.5mm, Pitch 1.27mm, IPC Low Density)
3D model SOIC300-18 (18-Pin Small Outline Integrated Circuit 1.27 mm Pitch)
pins: 1 RA2/AN2 (io), 2 RA3/AN3/VREF (io), 3 RA4/T0CKI (io), 4 ~{MCLR}/VPP (in), 5 VSS (power), 6 RB0/INT (io), 7 RB1/T1OSO/T1CKI (io), 8 RB2/T1OSI (io), 9 RB3/CCP1 (io), 10 RB4 (io), 11 RB5 (io), 12 RB6 (io), 13 RB7 (io), 14 VDD (power), 15 OSC2/CLKOUT (out), 16 OSC1/CLKIN (in), 17 RA0/AN0 (io), 18 RA1/AN1 (io)

## PIC16C716T-20/SS
designator U?
8-Bit CMOS Microcontroller with A/D Converter and Capture/Compare/PWM, 2K (x14-Bit words) EPROM, 128 Bytes RAM, 20 MHz, 20-Pin SSOP, 4.0 to 5.5V Supply Range, Commercial Temperature, Tape and Reel; Note: 25mA source/sink per I/O.; Published: 11-Oct-2004; LatestRevisionDate: 04-Mar-2005; LatestRevisionNote: Stylized 3D Model Added.; DatasheetVersion: DS41106A_1999; PackageVersion: 2003; PackageReference: SSOP-20; Publisher: Altium Limited; PackageDescription: SSOP, Plastic; 20 Leads; Body Width 5.3 mm; Pitch 0.65 mm; Code_JEDEC: MO-150; ComponentLink1Description: Manufacturer Link; ComponentLink1URL: http://www.microchip.com; ComponentLink2Description: Datasheet; ComponentLink2URL: http://ww1.microchip.com/downloads/en/DeviceDoc/41106a.pdf; ComponentLink3Description: Packaging Specification; ComponentLink3URL: http://ww1.microchip.com/downloads/en/PackagingSpec/00049AD.pdf
footprint SSOP-20 (SSOP, Plastic; 20 Leads; Body Width 5.3 mm; Pitch 0.65 mm)
3D model SSOP-20 (SSOP, Plastic; 20 Leads; Body Width 5.3 mm; Pitch 0.65 mm)
pins: 1 RA2/AN2 (io), 2 RA3/AN3/VREF (io), 3 RA4/T0CKI (io), 4 ~{MCLR}/VPP (in), 5 VSS (power), 6 VSS (power), 7 RB0/INT (io), 8 RB1/T1OSO/T1CKI (io), 9 RB2/T1OSI (io), 10 RB3/CCP1 (io), 11 RB4 (io), 12 RB5 (io), 13 RB6 (io), 14 RB7 (io), 15 VDD (power), 16 VDD (power), 17 OSC2/CLKOUT (out), 18 OSC1/CLKIN (in), 19 RA0/AN0 (io), 20 RA1/AN1 (io)

## PIC16C716T-20E/SO
designator U?
8-Bit CMOS Microcontroller with A/D Converter and Capture/Compare/PWM, 2K (x14-Bit words) EPROM, 128 Bytes RAM, 20 MHz, 18-Pin SOIC, 4.0 to 5.5V Supply Range, Extended Temperature, Tape and Reel; Note: 25mA source/sink per I/O.; Published: 11-Oct-2004; LatestRevisionDate: 13-Apr-2006; LatestRevisionNote: IPC-7351 Footprint Added.; DatasheetVersion: DS41106A_1999; PackageVersion: 2003; PackageReference: SOIC300-18; Publisher: Altium Limited; PackageDescription: 18-Pin Small Outline Integrated Circuit 1.27 mm Pitch; Code_JEDEC: MS-013; ComponentLink1Description: Manufacturer Link; ComponentLink1URL: http://www.microchip.com; ComponentLink2Description: Datasheet; ComponentLink2URL: http://ww1.microchip.com/downloads/en/DeviceDoc/41106a.pdf; ComponentLink3Description: Packaging Specification; ComponentLink3URL: http://ww1.microchip.com/downloads/en/PackagingSpec/00049AD.pdf
footprint SOIC300-18_N (SOIC, 18-Leads, Body 11.5x7.5mm, Pitch 1.27mm, IPC Medium Density)
footprint SOIC300-18_L (SOIC, 18-Leads, Body 11.5x7.5mm, Pitch 1.27mm, IPC High Density)
footprint SOIC300-18_M (SOIC, 18-Leads, Body 11.5x7.5mm, Pitch 1.27mm, IPC Low Density)
3D model SOIC300-18 (18-Pin Small Outline Integrated Circuit 1.27 mm Pitch)
pins: 1 RA2/AN2 (io), 2 RA3/AN3/VREF (io), 3 RA4/T0CKI (io), 4 ~{MCLR}/VPP (in), 5 VSS (power), 6 RB0/INT (io), 7 RB1/T1OSO/T1CKI (io), 8 RB2/T1OSI (io), 9 RB3/CCP1 (io), 10 RB4 (io), 11 RB5 (io), 12 RB6 (io), 13 RB7 (io), 14 VDD (power), 15 OSC2/CLKOUT (out), 16 OSC1/CLKIN (in), 17 RA0/AN0 (io), 18 RA1/AN1 (io)

## PIC16C716T-20E/SS
designator U?
8-Bit CMOS Microcontroller with A/D Converter and Capture/Compare/PWM, 2K (x14-Bit words) EPROM, 128 Bytes RAM, 20 MHz, 20-Pin SSOP, 4.0 to 5.5V Supply Range, Extended Temperature, Tape and Reel; Note: 25mA source/sink per I/O.; Published: 11-Oct-2004; LatestRevisionDate: 04-Mar-2005; LatestRevisionNote: Stylized 3D Model Added.; DatasheetVersion: DS41106A_1999; PackageVersion: 2003; PackageReference: SSOP-20; Publisher: Altium Limited; PackageDescription: SSOP, Plastic; 20 Leads; Body Width 5.3 mm; Pitch 0.65 mm; Code_JEDEC: MO-150; ComponentLink1Description: Manufacturer Link; ComponentLink1URL: http://www.microchip.com; ComponentLink2Description: Datasheet; ComponentLink2URL: http://ww1.microchip.com/downloads/en/DeviceDoc/41106a.pdf; ComponentLink3Description: Packaging Specification; ComponentLink3URL: http://ww1.microchip.com/downloads/en/PackagingSpec/00049AD.pdf
footprint SSOP-20 (SSOP, Plastic; 20 Leads; Body Width 5.3 mm; Pitch 0.65 mm)
3D model SSOP-20 (SSOP, Plastic; 20 Leads; Body Width 5.3 mm; Pitch 0.65 mm)
pins: 1 RA2/AN2 (io), 2 RA3/AN3/VREF (io), 3 RA4/T0CKI (io), 4 ~{MCLR}/VPP (in), 5 VSS (power), 6 VSS (power), 7 RB0/INT (io), 8 RB1/T1OSO/T1CKI (io), 9 RB2/T1OSI (io), 10 RB3/CCP1 (io), 11 RB4 (io), 12 RB5 (io), 13 RB6 (io), 14 RB7 (io), 15 VDD (power), 16 VDD (power), 17 OSC2/CLKOUT (out), 18 OSC1/CLKIN (in), 19 RA0/AN0 (io), 20 RA1/AN1 (io)

## PIC16C716T-20I/SO
designator U?
8-Bit CMOS Microcontroller with A/D Converter and Capture/Compare/PWM, 2K (x14-Bit words) EPROM, 128 Bytes RAM, 20 MHz, 18-Pin SOIC, 4.0 to 5.5V Supply Range, Industrial Temperature, Tape and Reel; Note: 25mA source/sink per I/O.; Published: 11-Oct-2004; LatestRevisionDate: 13-Apr-2006; LatestRevisionNote: IPC-7351 Footprint Added.; DatasheetVersion: DS41106A_1999; PackageVersion: 2003; PackageReference: SOIC300-18; Publisher: Altium Limited; PackageDescription: 18-Pin Small Outline Integrated Circuit 1.27 mm Pitch; Code_JEDEC: MS-013; ComponentLink1Description: Manufacturer Link; ComponentLink1URL: http://www.microchip.com; ComponentLink2Description: Datasheet; ComponentLink2URL: http://ww1.microchip.com/downloads/en/DeviceDoc/41106a.pdf; ComponentLink3Description: Packaging Specification; ComponentLink3URL: http://ww1.microchip.com/downloads/en/PackagingSpec/00049AD.pdf
footprint SOIC300-18_N (SOIC, 18-Leads, Body 11.5x7.5mm, Pitch 1.27mm, IPC Medium Density)
footprint SOIC300-18_L (SOIC, 18-Leads, Body 11.5x7.5mm, Pitch 1.27mm, IPC High Density)
footprint SOIC300-18_M (SOIC, 18-Leads, Body 11.5x7.5mm, Pitch 1.27mm, IPC Low Density)
3D model SOIC300-18 (18-Pin Small Outline Integrated Circuit 1.27 mm Pitch)
pins: 1 RA2/AN2 (io), 2 RA3/AN3/VREF (io), 3 RA4/T0CKI (io), 4 ~{MCLR}/VPP (in), 5 VSS (power), 6 RB0/INT (io), 7 RB1/T1OSO/T1CKI (io), 8 RB2/T1OSI (io), 9 RB3/CCP1 (io), 10 RB4 (io), 11 RB5 (io), 12 RB6 (io), 13 RB7 (io), 14 VDD (power), 15 OSC2/CLKOUT (out), 16 OSC1/CLKIN (in), 17 RA0/AN0 (io), 18 RA1/AN1 (io)

## PIC16C716T-20I/SS
designator U?
8-Bit CMOS Microcontroller with A/D Converter and Capture/Compare/PWM, 2K (x14-Bit words) EPROM, 128 Bytes RAM, 20 MHz, 20-Pin SSOP, 4.0 to 5.5V Supply Range, Industrial Temperature, Tape and Reel; Note: 25mA source/sink per I/O.; Published: 11-Oct-2004; LatestRevisionDate: 04-Mar-2005; LatestRevisionNote: Stylized 3D Model Added.; DatasheetVersion: DS41106A_1999; PackageVersion: 2003; PackageReference: SSOP-20; Publisher: Altium Limited; PackageDescription: SSOP, Plastic; 20 Leads; Body Width 5.3 mm; Pitch 0.65 mm; Code_JEDEC: MO-150; ComponentLink1Description: Manufacturer Link; ComponentLink1URL: http://www.microchip.com; ComponentLink2Description: Datasheet; ComponentLink2URL: http://ww1.microchip.com/downloads/en/DeviceDoc/41106a.pdf; ComponentLink3Description: Packaging Specification; ComponentLink3URL: http://ww1.microchip.com/downloads/en/PackagingSpec/00049AD.pdf
footprint SSOP-20 (SSOP, Plastic; 20 Leads; Body Width 5.3 mm; Pitch 0.65 mm)
3D model SSOP-20 (SSOP, Plastic; 20 Leads; Body Width 5.3 mm; Pitch 0.65 mm)
pins: 1 RA2/AN2 (io), 2 RA3/AN3/VREF (io), 3 RA4/T0CKI (io), 4 ~{MCLR}/VPP (in), 5 VSS (power), 6 VSS (power), 7 RB0/INT (io), 8 RB1/T1OSO/T1CKI (io), 9 RB2/T1OSI (io), 10 RB3/CCP1 (io), 11 RB4 (io), 12 RB5 (io), 13 RB6 (io), 14 RB7 (io), 15 VDD (power), 16 VDD (power), 17 OSC2/CLKOUT (out), 18 OSC1/CLKIN (in), 19 RA0/AN0 (io), 20 RA1/AN1 (io)

## PIC16C717-E/P
designator U?
8-Bit CMOS Microcontroller with 10-Bit A/D, 2K (x14-Bit words) EPROM, 256 Bytes RAM, 18-Pin PDIP, 4.0 to 5.5V Supply Range, Extended Temperature; Published: 11-Oct-2004; LatestRevisionDate: 04-Mar-2005; LatestRevisionNote: Stylized 3D Model Added.; DatasheetVersion: DS41120B_2002; PackageVersion: 2003; PackageReference: PDIP300-18; Publisher: Altium Limited; PackageDescription: DIP, Plastic; 18 Leads; Row Spacing 7.62 mm; Pitch 2.54 mm; Code_JEDEC: MS-001; ComponentLink1Description: Manufacturer Link; ComponentLink1URL: http://www.microchip.com; ComponentLink2Description: Datasheet; ComponentLink2URL: http://ww1.microchip.com/downloads/en/DeviceDoc/41120b.pdf; ComponentLink3Description: Packaging Specification; ComponentLink3URL: http://ww1.microchip.com/downloads/en/PackagingSpec/00049AD.pdf
footprint PDIP300-18 (DIP, Plastic; 18 Leads; Row Spacing 7.62 mm; Pitch 2.54 mm)
3D model PDIP300-18 (DIP, Plastic; 18 Leads; Row Spacing 7.62 mm; Pitch 2.54 mm)
pins: 1 RA0/AN0 (io), 2 RA1/AN1/LVDIN (io), 3 RA4/T0CKI (io), 4 RA5/~{MCLR}/VPP (in), 5 VSS (power), 6 RA2/AN2/VREF-/VRL (io), 7 RA3/AN3/VREF+/VRH (io), 8 RB0/AN4/INT (io), 9 RB1/AN5/~{SS} (io), 10 RB4/SDI/SDA (io), 11 RB5/SDO/P1B (io), 12 RB6/T1OSO/T1CKI/P1C (io), 13 RB7/T1OSI/P1D (io), 14 VDD (power), 15 RA6/OSC2/CLKOUT (io), 16 RA7/OSC1/CLKIN (io), 17 RB2/SCK/SCL (io), 18 RB3/CCP1/P1A (io)

## PIC16C717-E/SO
designator U?
8-Bit CMOS Microcontroller with 10-Bit A/D, 2K (x14-Bit words) EPROM, 256 Bytes RAM, 18-Pin SOIC, 4.0 to 5.5V Supply Range, Extended Temperature; Published: 11-Oct-2004; LatestRevisionDate: 13-Apr-2006; LatestRevisionNote: IPC-7351 Footprint Added.; DatasheetVersion: DS41120B_2002; PackageVersion: 2003; PackageReference: SOIC300-18; Publisher: Altium Limited; PackageDescription: 18-Pin Small Outline Integrated Circuit 1.27 mm Pitch; Code_JEDEC: MS-013; ComponentLink1Description: Manufacturer Link; ComponentLink1URL: http://www.microchip.com; ComponentLink2Description: Datasheet; ComponentLink2URL: http://ww1.microchip.com/downloads/en/DeviceDoc/41120b.pdf; ComponentLink3Description: Packaging Specification; ComponentLink3URL: http://ww1.microchip.com/downloads/en/PackagingSpec/00049AD.pdf
footprint SOIC300-18_N (SOIC, 18-Leads, Body 11.5x7.5mm, Pitch 1.27mm, IPC Medium Density)
footprint SOIC300-18_L (SOIC, 18-Leads, Body 11.5x7.5mm, Pitch 1.27mm, IPC High Density)
footprint SOIC300-18_M (SOIC, 18-Leads, Body 11.5x7.5mm, Pitch 1.27mm, IPC Low Density)
3D model SOIC300-18 (18-Pin Small Outline Integrated Circuit 1.27 mm Pitch)
pins: 1 RA0/AN0 (io), 2 RA1/AN1/LVDIN (io), 3 RA4/T0CKI (io), 4 RA5/~{MCLR}/VPP (in), 5 VSS (power), 6 RA2/AN2/VREF-/VRL (io), 7 RA3/AN3/VREF+/VRH (io), 8 RB0/AN4/INT (io), 9 RB1/AN5/~{SS} (io), 10 RB4/SDI/SDA (io), 11 RB5/SDO/P1B (io), 12 RB6/T1OSO/T1CKI/P1C (io), 13 RB7/T1OSI/P1D (io), 14 VDD (power), 15 RA6/OSC2/CLKOUT (io), 16 RA7/OSC1/CLKIN (io), 17 RB2/SCK/SCL (io), 18 RB3/CCP1/P1A (io)

## PIC16C717-E/SS
designator U?
8-Bit CMOS Microcontroller with 10-Bit A/D, 2K (x14-Bit words) EPROM, 256 Bytes RAM, 20-Pin SSOP, 4.0 to 5.5V Supply Range, Extended Temperature; Note: VSS pins (5 and 6) must be tied together.; Note: VDD pins (15 and 16) must be tied together.; Published: 11-Oct-2004; LatestRevisionDate: 04-Mar-2005; LatestRevisionNote: Stylized 3D Model Added.; DatasheetVersion: DS41120B_2002; PackageVersion: 2003; PackageReference: SSOP-20; Publisher: Altium Limited; PackageDescription: SSOP, Plastic; 20 Leads; Body Width 5.3 mm; Pitch 0.65 mm; Code_JEDEC: MO-150; ComponentLink1Description: Manufacturer Link; ComponentLink1URL: http://www.microchip.com; ComponentLink2Description: Datasheet; ComponentLink2URL: http://ww1.microchip.com/downloads/en/DeviceDoc/41120b.pdf; ComponentLink3Description: Packaging Specification; ComponentLink3URL: http://ww1.microchip.com/downloads/en/PackagingSpec/00049AD.pdf
footprint SSOP-20 (SSOP, Plastic; 20 Leads; Body Width 5.3 mm; Pitch 0.65 mm)
3D model SSOP-20 (SSOP, Plastic; 20 Leads; Body Width 5.3 mm; Pitch 0.65 mm)
pins: 1 RA0/AN0 (io), 2 RA1/AN1/LVDIN (io), 3 RA4/T0CKI (io), 4 RA5/~{MCLR}/VPP (in), 5 VSS (power), 6 VSS (power), 7 RA2/AN2/VREF-/VRL (io), 8 RA3/AN3/VREF+/VRH (io), 9 RB0/AN4/INT (io), 10 RB1/AN5/~{SS} (io), 11 RB4/SDI/SDA (io), 12 RB5/SDO/P1B (io), 13 RB6/T1OSO/T1CKI/P1C (io), 14 RB7/T1OSI/P1D (io), 15 VDD (power), 16 VDD (power), 17 RA6/OSC2/CLKOUT (io), 18 RA7/OSC1/CLKIN (io), 19 RB2/SCK/SCL (io), 20 RB3/CCP1/P1A (io)

## PIC16C717-I/P
designator U?
8-Bit CMOS Microcontroller with 10-Bit A/D, 2K (x14-Bit words) EPROM, 256 Bytes RAM, 18-Pin PDIP, 4.0 to 5.5V Supply Range, Industrial Temperature; Published: 11-Oct-2004; LatestRevisionDate: 04-Mar-2005; LatestRevisionNote: Stylized 3D Model Added.; DatasheetVersion: DS41120B_2002; PackageVersion: 2003; PackageReference: PDIP300-18; Publisher: Altium Limited; PackageDescription: DIP, Plastic; 18 Leads; Row Spacing 7.62 mm; Pitch 2.54 mm; Code_JEDEC: MS-001; ComponentLink1Description: Manufacturer Link; ComponentLink1URL: http://www.microchip.com; ComponentLink2Description: Datasheet; ComponentLink2URL: http://ww1.microchip.com/downloads/en/DeviceDoc/41120b.pdf; ComponentLink3Description: Packaging Specification; ComponentLink3URL: http://ww1.microchip.com/downloads/en/PackagingSpec/00049AD.pdf
footprint PDIP300-18 (DIP, Plastic; 18 Leads; Row Spacing 7.62 mm; Pitch 2.54 mm)
3D model PDIP300-18 (DIP, Plastic; 18 Leads; Row Spacing 7.62 mm; Pitch 2.54 mm)
pins: 1 RA0/AN0 (io), 2 RA1/AN1/LVDIN (io), 3 RA4/T0CKI (io), 4 RA5/~{MCLR}/VPP (in), 5 VSS (power), 6 RA2/AN2/VREF-/VRL (io), 7 RA3/AN3/VREF+/VRH (io), 8 RB0/AN4/INT (io), 9 RB1/AN5/~{SS} (io), 10 RB4/SDI/SDA (io), 11 RB5/SDO/P1B (io), 12 RB6/T1OSO/T1CKI/P1C (io), 13 RB7/T1OSI/P1D (io), 14 VDD (power), 15 RA6/OSC2/CLKOUT (io), 16 RA7/OSC1/CLKIN (io), 17 RB2/SCK/SCL (io), 18 RB3/CCP1/P1A (io)

## PIC16C717-I/SO
designator U?
8-Bit CMOS Microcontroller with 10-Bit A/D, 2K (x14-Bit words) EPROM, 256 Bytes RAM, 18-Pin SOIC, 4.0 to 5.5V Supply Range, Industrial Temperature; Published: 11-Oct-2004; LatestRevisionDate: 13-Apr-2006; LatestRevisionNote: IPC-7351 Footprint Added.; DatasheetVersion: DS41120B_2002; PackageVersion: 2003; PackageReference: SOIC300-18; Publisher: Altium Limited; PackageDescription: 18-Pin Small Outline Integrated Circuit 1.27 mm Pitch; Code_JEDEC: MS-013; ComponentLink1Description: Manufacturer Link; ComponentLink1URL: http://www.microchip.com; ComponentLink2Description: Datasheet; ComponentLink2URL: http://ww1.microchip.com/downloads/en/DeviceDoc/41120b.pdf; ComponentLink3Description: Packaging Specification; ComponentLink3URL: http://ww1.microchip.com/downloads/en/PackagingSpec/00049AD.pdf
footprint SOIC300-18_N (SOIC, 18-Leads, Body 11.5x7.5mm, Pitch 1.27mm, IPC Medium Density)
footprint SOIC300-18_L (SOIC, 18-Leads, Body 11.5x7.5mm, Pitch 1.27mm, IPC High Density)
footprint SOIC300-18_M (SOIC, 18-Leads, Body 11.5x7.5mm, Pitch 1.27mm, IPC Low Density)
3D model SOIC300-18 (18-Pin Small Outline Integrated Circuit 1.27 mm Pitch)
pins: 1 RA0/AN0 (io), 2 RA1/AN1/LVDIN (io), 3 RA4/T0CKI (io), 4 RA5/~{MCLR}/VPP (in), 5 VSS (power), 6 RA2/AN2/VREF-/VRL (io), 7 RA3/AN3/VREF+/VRH (io), 8 RB0/AN4/INT (io), 9 RB1/AN5/~{SS} (io), 10 RB4/SDI/SDA (io), 11 RB5/SDO/P1B (io), 12 RB6/T1OSO/T1CKI/P1C (io), 13 RB7/T1OSI/P1D (io), 14 VDD (power), 15 RA6/OSC2/CLKOUT (io), 16 RA7/OSC1/CLKIN (io), 17 RB2/SCK/SCL (io), 18 RB3/CCP1/P1A (io)

## PIC16C717-I/SS
designator U?
8-Bit CMOS Microcontroller with 10-Bit A/D, 2K (x14-Bit words) EPROM, 256 Bytes RAM, 20-Pin SSOP, 4.0 to 5.5V Supply Range, Industrial Temperature; Note: VSS pins (5 and 6) must be tied together.; Note: VDD pins (15 and 16) must be tied together.; Published: 11-Oct-2004; LatestRevisionDate: 04-Mar-2005; LatestRevisionNote: Stylized 3D Model Added.; DatasheetVersion: DS41120B_2002; PackageVersion: 2003; PackageReference: SSOP-20; Publisher: Altium Limited; PackageDescription: SSOP, Plastic; 20 Leads; Body Width 5.3 mm; Pitch 0.65 mm; Code_JEDEC: MO-150; ComponentLink1Description: Manufacturer Link; ComponentLink1URL: http://www.microchip.com; ComponentLink2Description: Datasheet; ComponentLink2URL: http://ww1.microchip.com/downloads/en/DeviceDoc/41120b.pdf; ComponentLink3Description: Packaging Specification; ComponentLink3URL: http://ww1.microchip.com/downloads/en/PackagingSpec/00049AD.pdf
footprint SSOP-20 (SSOP, Plastic; 20 Leads; Body Width 5.3 mm; Pitch 0.65 mm)
3D model SSOP-20 (SSOP, Plastic; 20 Leads; Body Width 5.3 mm; Pitch 0.65 mm)
pins: 1 RA0/AN0 (io), 2 RA1/AN1/LVDIN (io), 3 RA4/T0CKI (io), 4 RA5/~{MCLR}/VPP (in), 5 VSS (power), 6 VSS (power), 7 RA2/AN2/VREF-/VRL (io), 8 RA3/AN3/VREF+/VRH (io), 9 RB0/AN4/INT (io), 10 RB1/AN5/~{SS} (io), 11 RB4/SDI/SDA (io), 12 RB5/SDO/P1B (io), 13 RB6/T1OSO/T1CKI/P1C (io), 14 RB7/T1OSI/P1D (io), 15 VDD (power), 16 VDD (power), 17 RA6/OSC2/CLKOUT (io), 18 RA7/OSC1/CLKIN (io), 19 RB2/SCK/SCL (io), 20 RB3/CCP1/P1A (io)

## PIC16C717/JW
designator U?
8-Bit CMOS Microcontroller with 10-Bit A/D, 2K (x14-Bit words) EPROM, 256 Bytes RAM, 18-Pin CERDIP, UV Erasable, Standard VDD Range, Commercial Temperature; Note: JW Devices can be programmed to any device configuration.; Note: JW Devices meet the electrical requirement of each oscillator type.; Published: 11-Oct-2004; LatestRevisionDate: 04-Mar-2005; LatestRevisionNote: Stylized 3D Model Added.; DatasheetVersion: DS41120B_2002; PackageVersion: 2003; PackageReference: CERDIP300W-18; Publisher: Altium Limited; PackageDescription: CerDIP, Window; 18 Leads; Row Spacing 7.62 mm; Pitch 2.54 mm; Code_JEDEC: MO-036; ComponentLink1Description: Manufacturer Link; ComponentLink1URL: http://www.microchip.com; ComponentLink2Description: Datasheet; ComponentLink2URL: http://ww1.microchip.com/downloads/en/DeviceDoc/41120b.pdf; ComponentLink3Description: Packaging Specification; ComponentLink3URL: http://ww1.microchip.com/downloads/en/PackagingSpec/00049AD.pdf
footprint CERDIP300W-18 (CerDIP, Window; 18 Leads; Row Spacing 7.62 mm; Pitch 2.54 mm)
3D model CERDIP300W-18 (CerDIP, Window; 18 Leads; Row Spacing 7.62 mm; Pitch 2.54 mm)
pins: 1 RA0/AN0 (io), 2 RA1/AN1/LVDIN (io), 3 RA4/T0CKI (io), 4 RA5/~{MCLR}/VPP (in), 5 VSS (power), 6 RA2/AN2/VREF-/VRL (io), 7 RA3/AN3/VREF+/VRH (io), 8 RB0/AN4/INT (io), 9 RB1/AN5/~{SS} (io), 10 RB4/SDI/SDA (io), 11 RB5/SDO/P1B (io), 12 RB6/T1OSO/T1CKI/P1C (io), 13 RB7/T1OSI/P1D (io), 14 VDD (power), 15 RA6/OSC2/CLKOUT (io), 16 RA7/OSC1/CLKIN (io), 17 RB2/SCK/SCL (io), 18 RB3/CCP1/P1A (io)

## PIC16C717/P
designator U?
8-Bit CMOS Microcontroller with 10-Bit A/D, 2K (x14-Bit words) EPROM, 256 Bytes RAM, 18-Pin PDIP, 4.0 to 5.5V Supply Range, Commercial Temperature; Published: 11-Oct-2004; LatestRevisionDate: 04-Mar-2005; LatestRevisionNote: Stylized 3D Model Added.; DatasheetVersion: DS41120B_2002; PackageVersion: 2003; PackageReference: PDIP300-18; Publisher: Altium Limited; PackageDescription: DIP, Plastic; 18 Leads; Row Spacing 7.62 mm; Pitch 2.54 mm; Code_JEDEC: MS-001; ComponentLink1Description: Manufacturer Link; ComponentLink1URL: http://www.microchip.com; ComponentLink2Description: Datasheet; ComponentLink2URL: http://ww1.microchip.com/downloads/en/DeviceDoc/41120b.pdf; ComponentLink3Description: Packaging Specification; ComponentLink3URL: http://ww1.microchip.com/downloads/en/PackagingSpec/00049AD.pdf
footprint PDIP300-18 (DIP, Plastic; 18 Leads; Row Spacing 7.62 mm; Pitch 2.54 mm)
3D model PDIP300-18 (DIP, Plastic; 18 Leads; Row Spacing 7.62 mm; Pitch 2.54 mm)
pins: 1 RA0/AN0 (io), 2 RA1/AN1/LVDIN (io), 3 RA4/T0CKI (io), 4 RA5/~{MCLR}/VPP (in), 5 VSS (power), 6 RA2/AN2/VREF-/VRL (io), 7 RA3/AN3/VREF+/VRH (io), 8 RB0/AN4/INT (io), 9 RB1/AN5/~{SS} (io), 10 RB4/SDI/SDA (io), 11 RB5/SDO/P1B (io), 12 RB6/T1OSO/T1CKI/P1C (io), 13 RB7/T1OSI/P1D (io), 14 VDD (power), 15 RA6/OSC2/CLKOUT (io), 16 RA7/OSC1/CLKIN (io), 17 RB2/SCK/SCL (io), 18 RB3/CCP1/P1A (io)

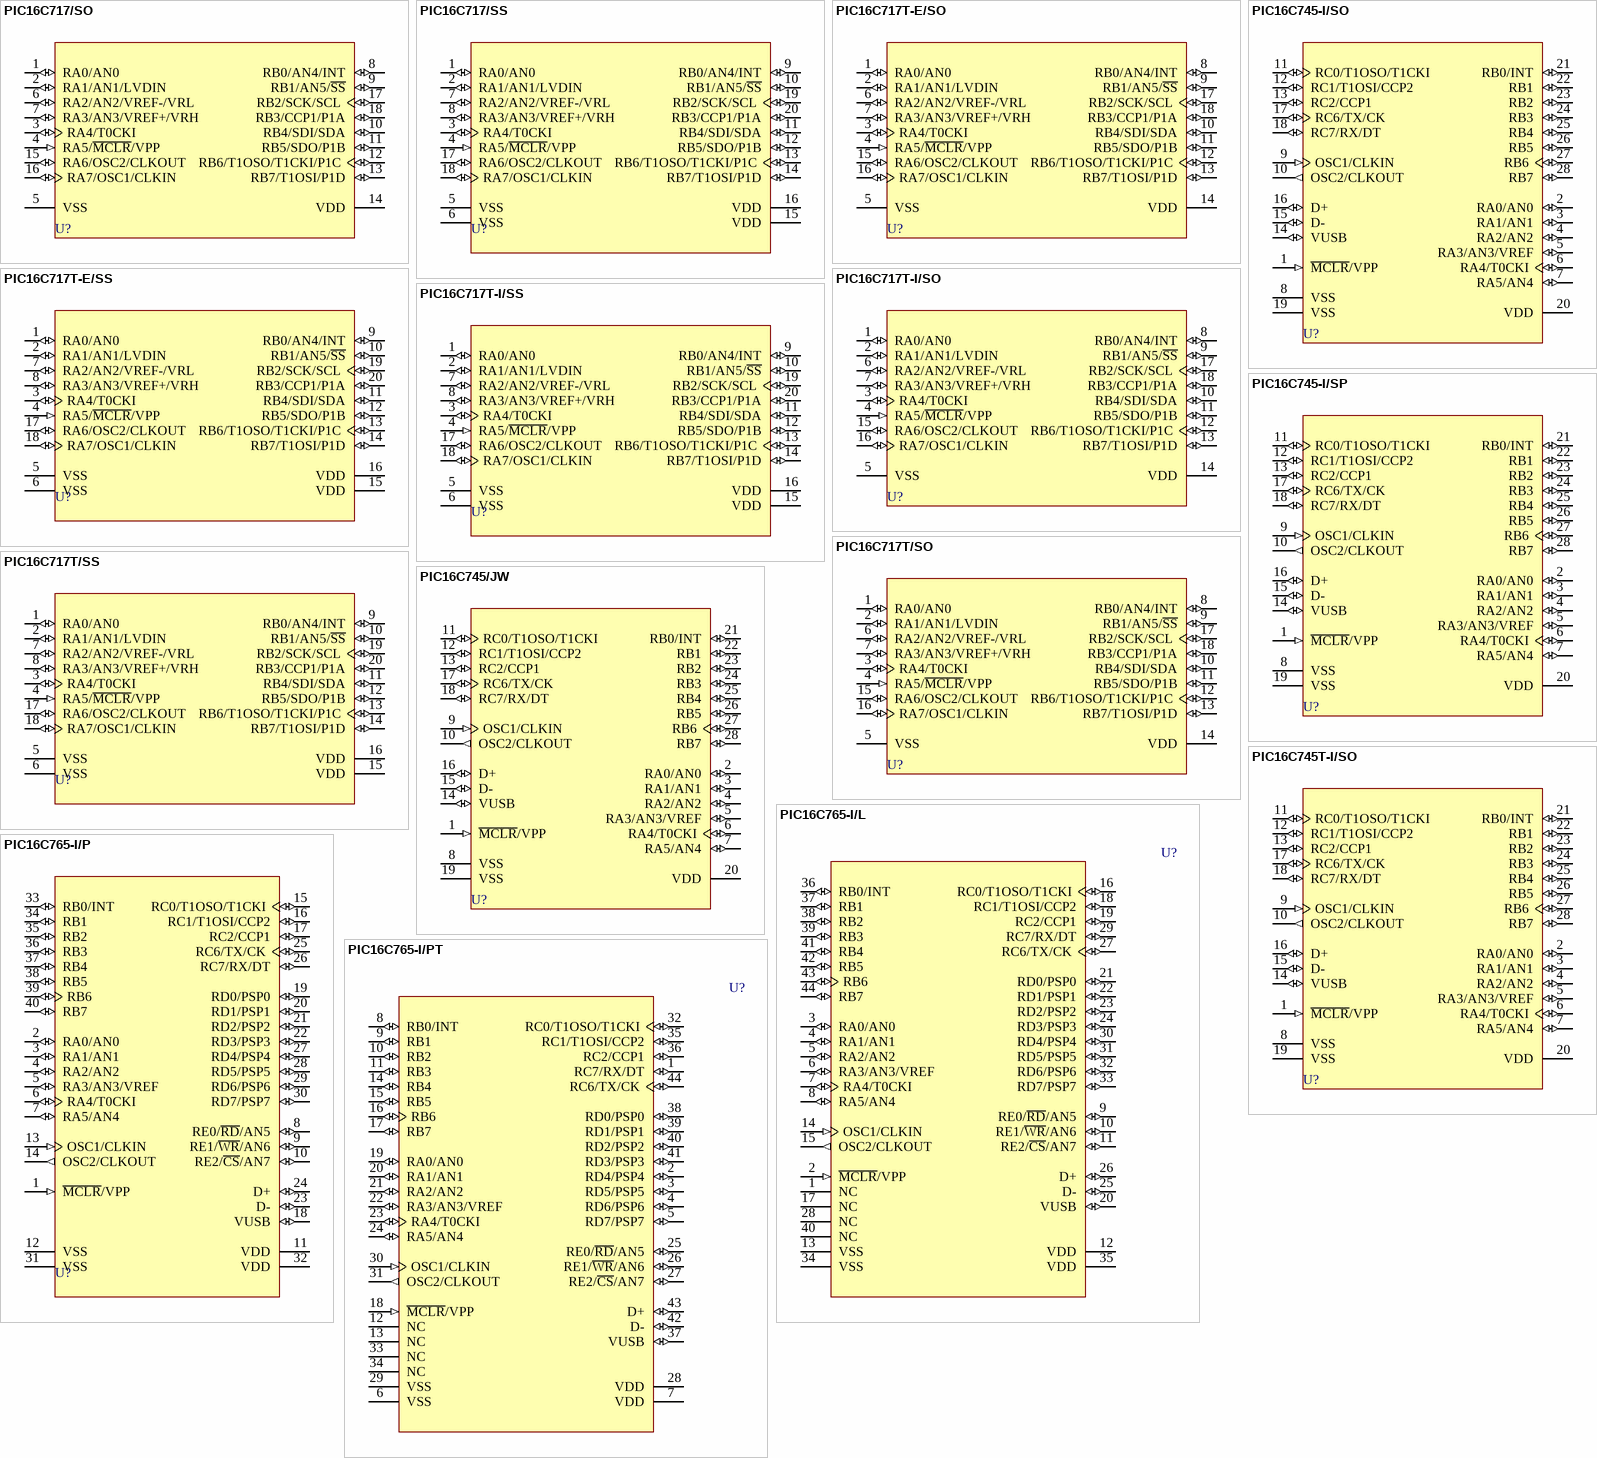
[diagram p62: symbols PIC16C717/SO to PIC16C765-I/PT]